# Altium footprint library N-watch_3.1.PcbLib: 25 footprints (part 1 of 2)
Each footprint in its own frame and in the unit in brackets; x right, y up, seen from the top. Pads: shape width x height; smd on the part's side, far side on the other; paste and mask are expansions set on the pad; w line width, h text height; cw(c..) or ccw(c..) is an arc to the next point about the centre after c.
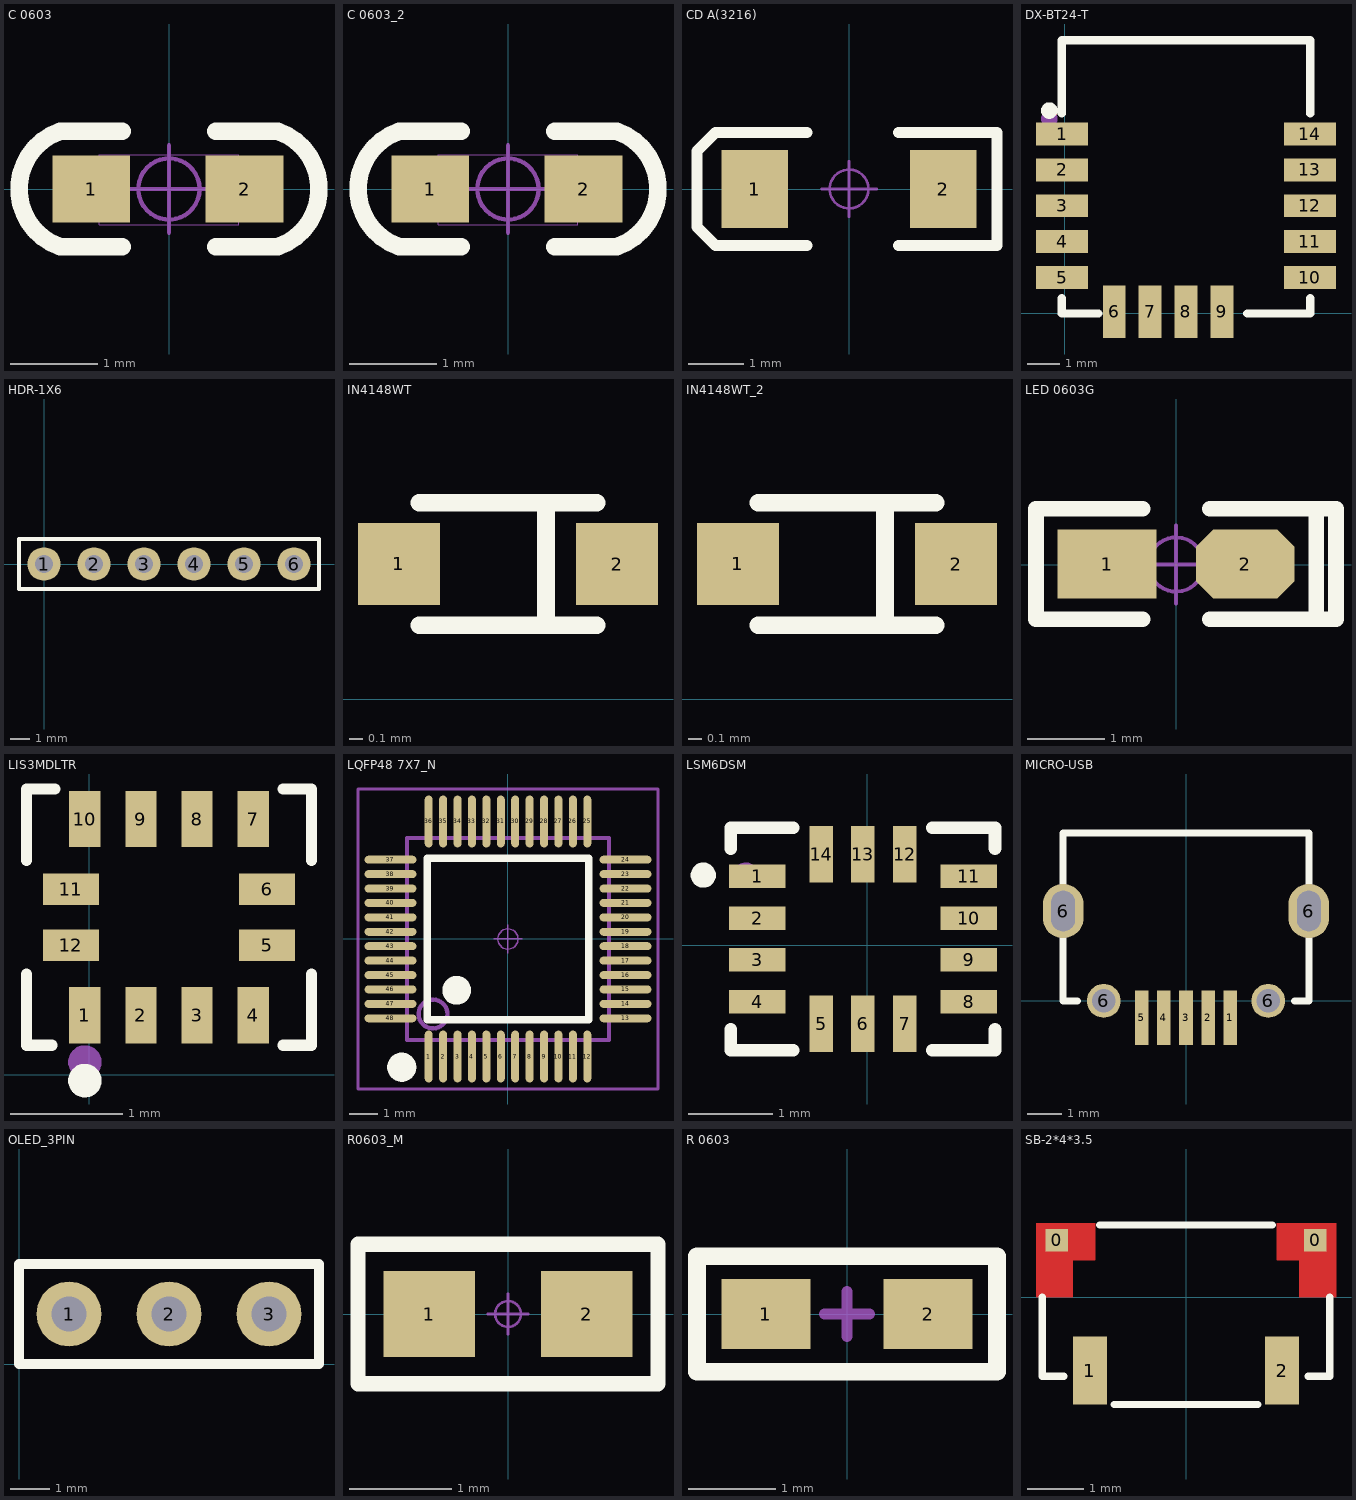
[diagram p0: the footprints below, top view; thin cyan lines are the x and y axes]

## C 0603 [mil] "无极性贴片电容"
pads (2):
  rect 35x30 smd: 1(-35,0) 2(34,0)
Top Overlay:
  lines w7.87: -21,-26 -49.02,-26 cw(c-40,0) -49.02,26 -21,26 ; 21,-26 49.02,-26 ccw(c40,0) 49.02,26 21,26
Mechanical 13:
  lines w0.39: -31.5,-16 -31.5,15.5 31.5,15.5 31.5,-16 -31.5,-16
Mechanical 15:
  circle w1.97: c0,0 r13.78
  lines w1.97: -19.68,0 19.68,0 ; 0,-19.68 0,19.68
3D body "C 0603.STEP": height 31.89, standoff -0.39, extent -31.5,-16.14 31.5,16.14

## C 0603_2 [mil]
pads (2):
  rect 35x30 smd: 1(-35,0) 2(34,0)
Top Overlay:
  lines w7.87: -21,-26 -49.02,-26 cw(c-40,0) -49.02,26 -21,26 ; 21,-26 49.02,-26 ccw(c40,0) 49.02,26 21,26
Mechanical 13:
  lines w0.39: -31.5,-16 -31.5,15.5 31.5,15.5 31.5,-16 -31.5,-16
Mechanical 15:
  circle w1.97: c0,0 r13.78
  lines w1.97: -19.68,0 19.68,0 ; 0,-19.68 0,19.68
3D body "C 0603.STEP": height 31.89, standoff -0.39, extent -31.5,-16.14 31.5,16.14

## CD A(3216) [mm] "长3.2mm，宽1.6mm，厚1.6mm"
pads (2):
  rect 1.2x1.4 smd: 1(-1.7,0) 2(1.7,0)
Top Overlay:
  lines w0.2: -0.762,-1.016 -2.413,-1.016 -2.743,-0.686 -2.743,0.686 -2.413,1.016 -0.762,1.016 ; 0.889,-1.016 2.667,-1.016 2.667,1.016 0.889,1.016
Mechanical 15:
  circle w0.05: c0,0 r0.35
  lines w0.05: -0.5,0 0.5,0 ; 0,-0.5 0,0.5
3D body "CD A(3216).STEP": height 1.6, standoff -0.01, extent -1.6,-0.8 1.6,0.8

## DX-BT24-T [mm]
pads (14):
  rect 1.6x0.7 smd paste+0 mask+0.05: 1(-0.089,5.488) 2(-0.089,4.388) 3(-0.089,3.288) 4(-0.089,2.188) 5(-0.089,1.088) 10(7.511,1.088) 11(7.511,2.188) 12(7.511,3.288) 13(7.511,4.388) 14(7.511,5.488)
  rect 0.7x1.6 smd paste+0 mask+0.05: 6(1.511,0.038) 7(2.611,0.038) 8(3.711,0.038) 9(4.811,0.038)
Top Overlay:
  circle w0.254: c-0.48,6.209 r0.127
  lines w0.254: -0.099,0.457 -0.099,-0.014 1.03,-0.014 ; -0.099,6.119 -0.099,8.368 7.521,8.368 7.521,6.119 ; 5.592,-0.014 7.521,-0.014 7.521,0.113 7.521,0.457
Mechanical 15:
  circle w0.254: c-0.48,5.955 r0.127

## HDR-1X6 [mm] "排针，6脚"
pads (6):
  round 1.7 hole 0.9: 1(0,0) 2(2.54,0) 3(5.08,0) 4(7.62,0) 5(10.16,0) 6(12.7,0)
Top Overlay:
  lines w0.2: -1.27,-1.27 13.97,-1.27 13.97,1.27 -1.27,1.27 -1.27,-1.27
3D body "HDR2.54-1P.STEP": height 8.5, standoff -3, extent -1.27,-1.27 1.27,1.27
3D body "HDR2.54-1P.STEP": height 8.5, standoff -3, extent 1.27,-1.27 3.81,1.27
3D body "HDR2.54-1P.STEP": height 8.5, standoff -3, extent 3.81,-1.27 6.35,1.27
3D body "HDR2.54-1P.STEP": height 8.5, standoff -3, extent 6.35,-1.27 8.89,1.27
3D body "HDR2.54-1P.STEP": height 8.5, standoff -3, extent 8.89,-1.27 11.43,1.27
3D body "HDR2.54-1P.STEP": height 8.5, standoff -3, extent 11.43,-1.27 13.97,1.27

## IN4148WT [mm]
pads (2):
  rect 0.6x0.6 smd paste+0 mask+0.051: 1(0.457,0.991) 2(2.057,0.991)
Top Overlay:
  lines w0.13: 0.607,0.541 1.907,0.541 ; 0.607,1.441 1.907,1.441 ; 1.536,0.547 1.536,1.397
Mechanical 15:
  region: 0.257,1.041 0.607,1.041 0.607,0.941 0.257,0.941
  region: 1.857,1.041 2.207,1.041 2.207,0.941 1.857,0.941
  region: 0.381,1.256 0.481,1.256 0.481,0.706 0.381,0.706

## IN4148WT_2 [mm]
pads (2):
  rect 0.6x0.6 smd paste+0 mask+0.051: 1(0.457,0.991) 2(2.057,0.991)
Top Overlay:
  lines w0.13: 0.607,0.541 1.907,0.541 ; 0.607,1.441 1.907,1.441 ; 1.536,0.547 1.536,1.397
Mechanical 15:
  region: 0.381,1.256 0.481,1.256 0.481,0.706 0.381,0.706
  region: 1.857,1.041 2.207,1.041 2.207,0.941 1.857,0.941
  region: 0.257,1.041 0.607,1.041 0.607,0.941 0.257,0.941

## LED 0603G [mil] "绿色0603LED"
pads (2):
  rect 50x35 smd: 1(-35,0.26)
  oct 50x35 smd: 2(35,0.26)
Top Overlay:
  lines w8: -17,-27.74 -71,-27.74 -71,-25.74 -71,28.26 -70,28.26 -17,28.26 ; 17,-27.74 70,-27.74 ; 17,28.26 71,28.26 81,28.26 81,-27.74 71,-27.74 71,26.26
Mechanical 15:
  circle w1.97: c0,0 r13.78
  lines w1.97: -19.68,0 19.68,0 ; 0,-19.68 0,19.68
3D body "LED 0603玻璃罩.STEP": height 23.82, standoff 8.07, extent -23.58,-15.79 23.58,15.79
3D body "LED 0603-G.STEP": height 18.36, standoff -0.16, extent -31.49,-15.79 31.5,15.79

## LIS3MDLTR [mm]
pads (12):
  rect 0.28x0.5 smd paste+0 mask+0.051: 1(-0.04,0.53) 2(0.46,0.53) 3(0.96,0.53) 4(1.46,0.53) 7(1.46,2.28) 8(0.96,2.28) 9(0.46,2.28) 10(-0.04,2.28)
  rect 0.5x0.28 smd paste+0 mask+0.051: 5(1.585,1.155) 6(1.585,1.655) 11(-0.165,1.655) 12(-0.165,1.155)
Top Overlay:
  circle w0.15: c-0.04,-0.052 r0.075
  lines w0.1: -0.56,0.897 -0.56,0.262 -0.334,0.262 ; -0.56,1.913 -0.56,2.548 -0.306,2.548 ; 1.726,0.262 1.98,0.262 1.98,0.897 ; 1.726,2.548 1.98,2.548 1.98,1.913
Mechanical 15:
  circle w0.15: c-0.04,0.113 r0.075

## LQFP48 7X7_N [mm] "48脚，体宽7x7mm，脚距0.5mm"
height 1.6
pads (48):
  oval 0.279x1.8 smd: 1(-2.75,-4.075) 2(-2.25,-4.075) 3(-1.75,-4.075) 4(-1.25,-4.075) 5(-0.75,-4.075) 6(-0.25,-4.075) 7(0.25,-4.075) 8(0.75,-4.075) 9(1.25,-4.075) 10(1.75,-4.075) 11(2.25,-4.075) 12(2.75,-4.075) 25(2.75,4.075) 26(2.25,4.075) 27(1.75,4.075) 28(1.25,4.075) 29(0.75,4.075) 30(0.25,4.075) 31(-0.25,4.075) 32(-0.75,4.075) 33(-1.25,4.075) 34(-1.75,4.075) 35(-2.25,4.075) 36(-2.75,4.075)
  oval 1.8x0.279 smd: 13(4.075,-2.75) 14(4.075,-2.25) 15(4.075,-1.75) 16(4.075,-1.25) 17(4.075,-0.75) 18(4.075,-0.25) 19(4.075,0.25) 20(4.075,0.75) 21(4.075,1.25) 22(4.075,1.75) 23(4.075,2.25) 24(4.075,2.75) 37(-4.075,2.75) 38(-4.075,2.25) 39(-4.075,1.75) 40(-4.075,1.25) 41(-4.075,0.75) 42(-4.075,0.25) 43(-4.075,-0.25) 44(-4.075,-0.75) 45(-4.075,-1.25) 46(-4.075,-1.75) 47(-4.075,-2.25) 48(-4.075,-2.75)
Top Overlay:
  circle w0.5: c-1.778,-1.778 r0.25
  circle w0.508: c-3.683,-4.445 r0.25
  lines w0.254: -2.794,-2.794 2.794,-2.794 2.794,2.794 -2.794,2.794 -2.794,-2.794
Mechanical 13:
  circle w0.15: c-2.6,-2.6 r0.5
  lines w0.15: -3.5,-3.5 -3.5,3.5 3.5,3.5 3.5,-3.5 -3.5,-3.5
Mechanical 15:
  circle w0.05: c0,0 r0.35
  lines w0.05: -0.5,0 0.5,0 ; 0,-0.5 0,0.5
  lines w0.1: -5.2,-5.2 5.2,-5.2 5.2,5.2 -5.2,5.2 -5.2,-5.2
3D body "LQFP48-7x7.STEP": height 1.45, standoff 0, extent -4.503,-4.503 4.503,4.503

## LSM6DSM [mm]
pads (14):
  rect 0.675x0.28 smd paste+0 mask+0.051: 1(-1.314,0.822) 2(-1.314,0.322) 3(-1.314,-0.178) 4(-1.314,-0.678) 8(1.21,-0.678) 9(1.21,-0.178) 10(1.21,0.322) 11(1.21,0.822)
  rect 0.28x0.675 smd paste+0 mask+0.051: 5(-0.552,-0.94) 6(-0.052,-0.94) 7(0.448,-0.94) 12(0.448,1.085) 13(-0.052,1.085) 14(-0.552,1.085)
Top Overlay:
  circle w0.15: c-1.957,0.834 r0.075
  lines w0.152: -1.628,-1.008 -1.628,-1.254 -0.883,-1.254 ; -1.628,1.153 -1.628,1.399 -0.883,1.399 ; 0.778,-1.254 1.524,-1.254 1.524,-1.008 ; 0.778,1.399 1.524,1.399 1.524,1.153
Mechanical 15:
  circle w0.15: c-1.449,0.834 r0.075

## MICRO-USB [mm]
pads (9):
  rect 0.4x1.6 smd: 1(1.3,-0.5) 2(0.65,-0.5) 3(0,-0.5) 4(-0.65,-0.5) 5(-1.3,-0.5)
  oval 1.2x1.6 / inner oval 1.5x2 / far side oval 1.5x2 hole 0.7 slot 1.2 at 90 deg: 6(-3.625,2.65) 6(3.625,2.65)
  round 1 / inner round 1 / far side round 1.2 hole 0.7: 6(-2.425,0) 6(2.425,0)
Top Overlay:
  lines w0.2: -3.2,0 -3.625,0 -3.625,4.95 3.625,4.95 3.625,0 3.2,0
3D body "Micro-USB-DIP.STEP": height 2.68, standoff -0.63, extent -4.1,-0.23 4.1,5.2

## OLED_3PIN [mil]
pads (3):
  round 65 hole 35: 1(50,50) 2(150,50) 3(250,50)
Top Overlay:
  lines w10: 0,0 300,0 300,100 150,100 0,100 0,0

## R0603_M [mm] "1/10W贴片电阻"
pads (2):
  rect 0.9x0.85 smd: 1(-0.775,0) 2(0.775,0)
Top Overlay:
  lines w0.152: -1.475,-0.686 -1.475,0.686 1.475,0.686 1.475,-0.686 -1.475,-0.686
Mechanical 15:
  circle w0.025: c0,0 r0.127
  lines w0.025: -0.2,0 0.2,0 ; 0,-0.2 0,0.2
3D body "R0603-2.stp": height 0.4, standoff 0, extent -0.8,-0.4 0.8,0.4

## R 0603 [mil] "1/10W贴片电阻"
pads (2):
  rect 40x31.5 smd: 1(-36.5,0) 2(36.5,0)
Top Overlay:
  lines w8: -67.5,-26 67.5,-26 67.5,26 -67.5,26 -67.5,-26
Mechanical 15:
  lines w5: -10,0 10,0 ; 0,-10 0,10
3D body "R 0603.STEP": height 15.79, standoff -0.13, extent -31.49,-15.74 31.5,15.75

## SB-2*4*3.5 [mm] "贴片侧贴轻触开关"
pads (4):
  rect 0.4x0.4 smd: 0(-2.286,1) 0(2.286,1)
  rect 0.6x1.2 smd: 1(-1.7,-1.3) 2(1.7,-1.3)
Top Layer:
  region: -2.65,0 -2.65,1.3 -1.6,1.3 -1.6,0.65 -2,0.65 -2,0
  region: 2.65,0 2.65,1.3 1.6,1.3 1.6,0.65 2,0.65 2,0
Top Overlay:
  lines w0.127: -2.54,0 -2.54,-1.4 -2.156,-1.4 ; -1.524,1.27 1.524,1.27 ; -1.27,-1.9 1.27,-1.9 ; 2.156,-1.4 2.54,-1.4 2.54,0
Top Paste:
  region: -2.65,0 -2.65,1.3 -1.6,1.3 -1.6,0.65 -2,0.65 -2,0
  region: 2.65,0 2.65,1.3 1.6,1.3 1.6,0.65 2,0.65 2,0
Top Solder:
  region: -2.65,0 -2.65,1.3 -1.6,1.3 -1.6,0.65 -2,0.65 -2,0
  region: 2.65,0 2.65,1.3 1.6,1.3 1.6,0.65 2,0.65 2,0
3D body "SideKey.STEP": height 1.8, standoff -0.4, extent -2.275,-1.499 2.275,2.293